# EAGLE library part W25Q (library W25Q)
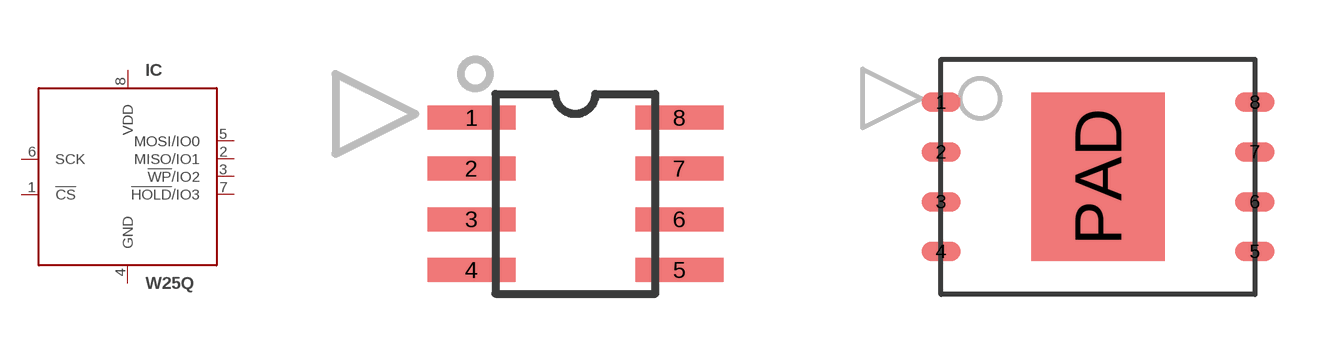
[diagram p0: symbol with the pads of SOIC8; footprints SOIC8, WSON8X6]

Designator prefix IC

## W25Q32JVSS (MARK: 25Q32JVSSIQ; MF: Winbond; MPN: W25Q32JVSSI), W25Q64FVSS (MARK: 25Q64FVSSIQ; MF: Winbond; MPN: W25Q64FVSSI)  [SOIC8]
1  !CS  in
2  MISO/IO1
3  !WP!/IO2
4  GND  pwr
5  MOSI/IO0
6  SCK  in
7  !HOLD!/IO3
8  VDD  pwr

## W25Q32JVZE (MARK: 25Q32JVIQ; MF: Winbond; MPN: W25Q32JVZPI), W25Q64FVZE (MARK: 25Q64FVIQ; MF: Winbond; MPN: W25Q64FVZPI)  [WSON8X6]
1  !CS  in
2  MISO/IO1
3  !WP!/IO2
4  GND  pwr
5  MOSI/IO0
6  SCK  in
7  !HOLD!/IO3
8  VDD  pwr
PAD  GND  pwr

## W25Q32JVZP (MARK: 25Q32JVI; MF: Winbond; MPN: W25Q32JVZPI), W25Q64FVZP (MARK: 25Q64FVI; MF: Winbond; MPN: W25Q64FVZPI)  [WSON6X5]
Pads as for WSON8X6

## W25Q256JWP (MARK: 25Q256JWPQ; MF: Winbond; MPN: W25Q256JWPIQ)  [WSON6X5]
Pads as for WSON8X6

## Footprint SOIC8 (pad centres in mm)
smd 2.2 x 0.6: 1 -2.6,1.905; 2 -2.6,0.635; 3 -2.6,-0.635; 4 -2.6,-1.905; 5 2.6,-1.905; 6 2.6,-0.635; 7 2.6,0.635; 8 2.6,1.905

## Footprint WSON8X6 (pad centres in mm)
smd 1 x 0.5: 1 -4,1.905; 2 -4,0.635; 3 -4,-0.635; 4 -4,-1.905; 5 4,-1.905; 6 4,-0.635; 7 4,0.635; 8 4,1.905
smd 3.4 x 4.3: PAD 0,0

## Footprint WSON6X5 (pad centres in mm)
smd 1 x 0.5: 1 -3,1.905; 2 -3,0.635; 3 -3,-0.635; 4 -3,-1.905; 5 3,-1.905; 6 3,-0.635; 7 3,0.635; 8 3,1.905
smd 3.4 x 4.3: PAD 0,0